# Altium footprint library 2007263-1.PcbLib: 1 footprints
Each footprint in its own frame and in the unit in brackets; x right, y up, seen from the top. Pads: shape width x height; smd on the part's side, far side on the other; paste and mask are expansions set on the pad; w line width, h text height; cw(c..) or ccw(c..) is an arc to the next point about the centre after c.
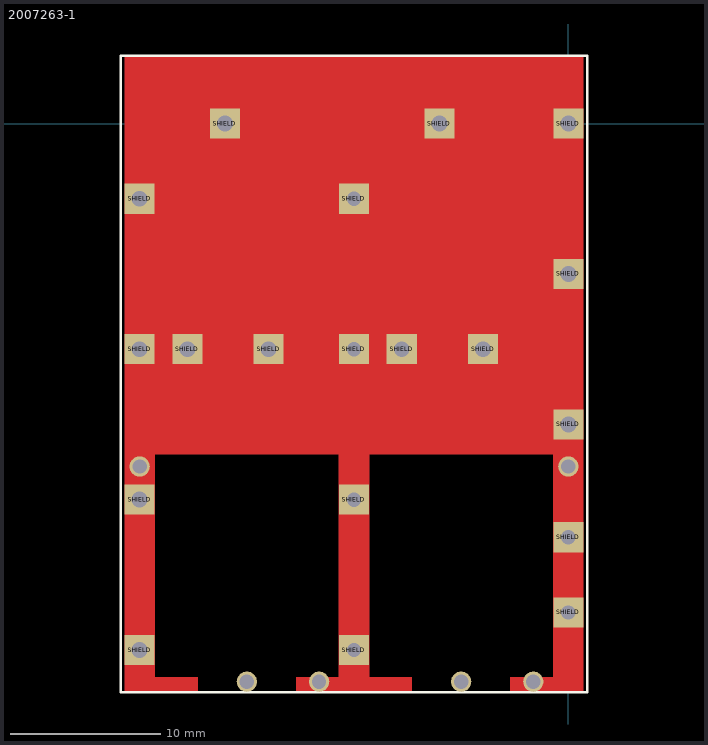
[diagram p0: the footprint, top view; thin cyan lines are the x and y axes]

## 2007263-1 [mm] "1x2 SFP press-fit cage"
pads (25):
  rect 2x2 hole 1.05: SHIELD(-28.5,-35) SHIELD(-28.5,-25) SHIELD(-28.5,-15) SHIELD(-28.5,-5) SHIELD(-25.325,-15) SHIELD(-22.825,0) SHIELD(-19.925,-15) SHIELD(-11.075,-15) SHIELD(-8.575,0) SHIELD(-5.675,-15) SHIELD(0,-20) SHIELD(0,-10) SHIELD(0,0)
  round 1.35 hole 0.95: SHIELD(-28.5,-22.8) SHIELD(-21.37,-37.1) SHIELD(-16.57,-37.1) SHIELD(-7.13,-37.1) SHIELD(-2.33,-37.1) SHIELD(0,-22.8)
  rect 2x2 hole 0.95: SHIELD(-14.25,-35) SHIELD(-14.25,-25) SHIELD(-14.25,-15) SHIELD(-14.25,-5) SHIELD(0,-32.5) SHIELD(0,-27.5)
Top Layer:
  region: 1,4.5 1,-37.8 -3.85,-37.8 -3.85,-36.8 -1.006,-36.8 -1,-22 -13.25,-22 -13.25,-36.8 -10.4,-36.8 -10.4,-37.8 -18.1,-37.8 -18.1,-36.8 -15.25,-36.8 -15.25,-22 -27.5,-22 -27.5,-36.8 -24.65,-36.8 -24.65,-37.8 -29.5,-37.8 -29.5,4.5
Top Overlay:
  lines w0.15: -29.75,-37.8 -29.75,4.5 1.25,4.5 1.25,-37.8 -29.75,-37.8
3D body "2007263-1.step": height 10.62, standoff -2.02, extent -29.498,-37.475 1.048,11.5